# Altium schematic symbol library 7490100111.SchLib: 1 symbol
Pins are listed as number, name and electrical type; pins without a type are passive.

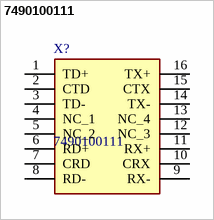
[diagram p0: symbol 7490100111]

## 7490100111
designator X?
Audio Transformers / Signal Transformers 10/100 Base-T SMT Transformer 1 Port; Manufacturer_Name: Wurth Elektronik; Geometry.Height: 5.33mm; Mouser Part Number: 710-7490100111; Mouser Price/Stock: https://www.mouser.co.uk/ProductDetail/Wurth-Elektronik/7490100111?qs=2sV1BwmkawTzYJbYKh1aHA%3D%3D; Manufacturer_Part_Number: 7490100111; Datasheet Link: https://www.we-online.com/katalog/datasheet/7490100111.pdf
footprint 7490100111
pins: 1 TD+, 2 CTD, 3 TD-, 4 NC_1, 5 NC_2, 6 RD+, 7 CRD, 8 RD-, 9 RX-, 10 CRX, 11 RX+, 12 NC_3, 13 NC_4, 14 TX-, 15 CTX, 16 TX+